# EAGLE library part LTM8055EY-1#PBF (library SamacSys_Parts)
Switching Voltage Regulators 36VIN, 8.5A Buck-Boost Module Reg Source: Datasheet <https://www.analog.com/media/en/technical-documentation/data-sheets/LTM8055-8055-1.pdf>
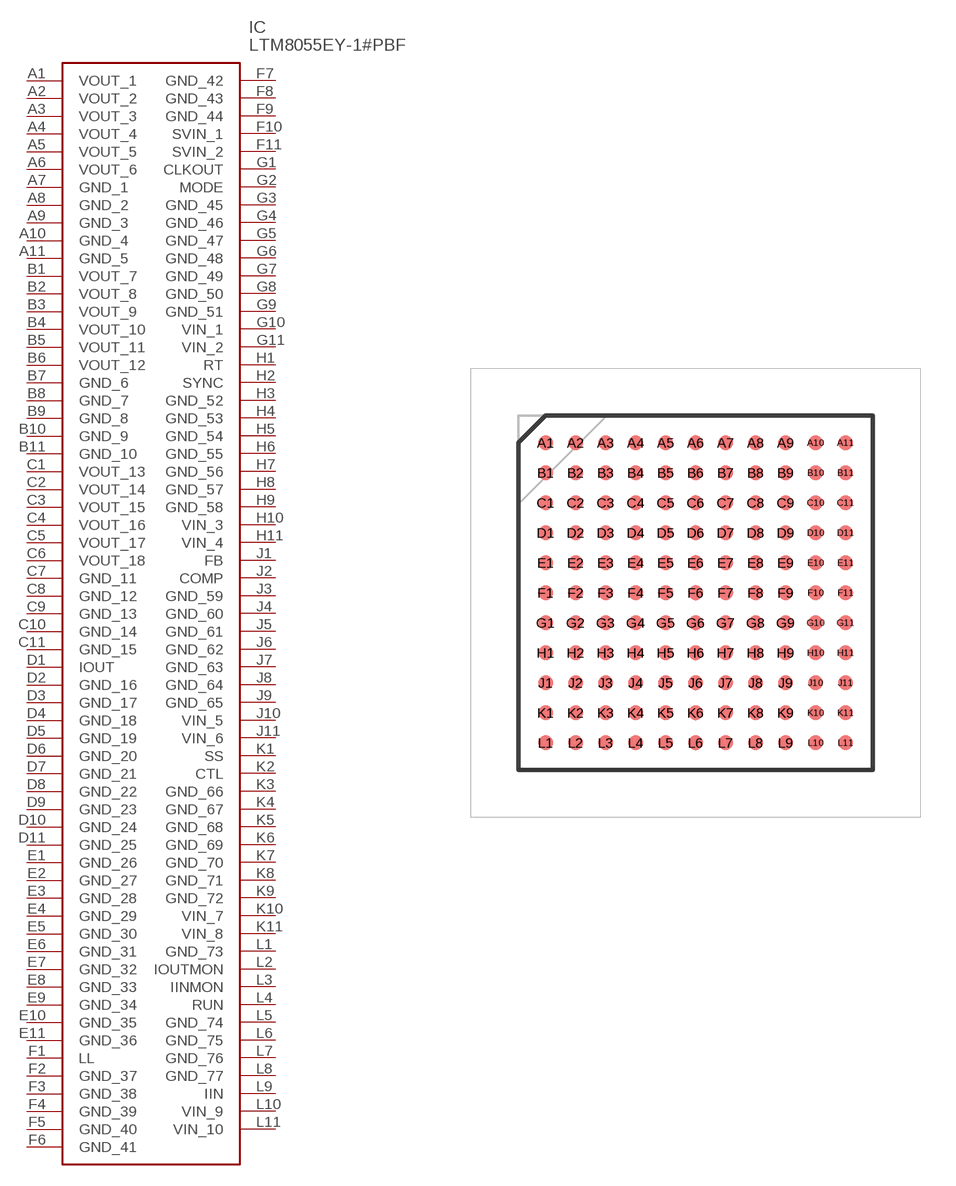
[diagram p0: symbol with the pads of BGA121C127P11X11_1500X1500X512; footprint BGA121C127P11X11_1500X1500X512]

Designator prefix IC

## LTM8055EY-1#PBF (DESCRIPTION: Switching Voltage Regulators 36VIN, 8.5A Buck-Boost Module Reg; HEIGHT: 5.12mm; MANUFACTURER_NAME: Linear Technology; MANUFACTURER_PART_NUMBER: LTM8055EY-1#PBF; MOUSER_PART_NUMBER: 584-LTM8055EY-1#PBF; MOUSER_PRICE-STOCK: https://www.mouser.co.uk/ProductDetail/Analog-Devices-Linear-Technology/LTM8055EY-1PBF?qs=qSfuJ%252Bfl%2Fd6h9OfHwPBS6w%3D%3D)  [BGA121C127P11X11_1500X1500X512]
A1  VOUT_1
A2  VOUT_2
A3  VOUT_3
A4  VOUT_4
A5  VOUT_5
A6  VOUT_6
A7  GND_1
A8  GND_2
A9  GND_3
A10  GND_4
A11  GND_5
B1  VOUT_7
B2  VOUT_8
B3  VOUT_9
B4  VOUT_10
B5  VOUT_11
B6  VOUT_12
B7  GND_6
B8  GND_7
B9  GND_8
B10  GND_9
B11  GND_10
C1  VOUT_13
C2  VOUT_14
C3  VOUT_15
C4  VOUT_16
C5  VOUT_17
C6  VOUT_18
C7  GND_11
C8  GND_12
C9  GND_13
C10  GND_14
C11  GND_15
D1  IOUT
D2  GND_16
D3  GND_17
D4  GND_18
D5  GND_19
D6  GND_20
D7  GND_21
D8  GND_22
D9  GND_23
D10  GND_24
D11  GND_25
E1  GND_26
E2  GND_27
E3  GND_28
E4  GND_29
E5  GND_30
E6  GND_31
E7  GND_32
E8  GND_33
E9  GND_34
E10  GND_35
E11  GND_36
F1  LL
F2  GND_37
F3  GND_38
F4  GND_39
F5  GND_40
F6  GND_41
F7  GND_42
F8  GND_43
F9  GND_44
F10  SVIN_1
F11  SVIN_2
G1  CLKOUT
G2  MODE
G3  GND_45
G4  GND_46
G5  GND_47
G6  GND_48
G7  GND_49
G8  GND_50
G9  GND_51
G10  VIN_1
G11  VIN_2
H1  RT
H2  SYNC
H3  GND_52
H4  GND_53
H5  GND_54
H6  GND_55
H7  GND_56
H8  GND_57
H9  GND_58
H10  VIN_3
H11  VIN_4
J1  FB
J2  COMP
J3  GND_59
J4  GND_60
J5  GND_61
J6  GND_62
J7  GND_63
J8  GND_64
J9  GND_65
J10  VIN_5
J11  VIN_6
K1  SS
K2  CTL
K3  GND_66
K4  GND_67
K5  GND_68
K6  GND_69
K7  GND_70
K8  GND_71
K9  GND_72
K10  VIN_7
K11  VIN_8
L1  GND_73
L2  IOUTMON
L3  IINMON
L4  RUN
L5  GND_74
L6  GND_75
L7  GND_76
L8  GND_77
L9  IIN
L10  VIN_9
L11  VIN_10

## Footprint BGA121C127P11X11_1500X1500X512 (pad centres in mm)
BGA Package 121-Lead (15.00mm 15.00mm 4.92mm)
smd 0.635 x 0.635: A1 -6.35,6.35; A2 -5.08,6.35; A3 -3.81,6.35; A4 -2.54,6.35; A5 -1.27,6.35; A6 0,6.35; A7 1.27,6.35; A8 2.54,6.35; A9 3.81,6.35; A10 5.08,6.35; A11 6.35,6.35; B1 -6.35,5.08; B2 -5.08,5.08; B3 -3.81,5.08; B4 -2.54,5.08; B5 -1.27,5.08; B6 0,5.08; B7 1.27,5.08; B8 2.54,5.08; B9 3.81,5.08; B10 5.08,5.08; B11 6.35,5.08; C1 -6.35,3.81; C2 -5.08,3.81; C3 -3.81,3.81; C4 -2.54,3.81; C5 -1.27,3.81; C6 0,3.81; C7 1.27,3.81; C8 2.54,3.81; C9 3.81,3.81; C10 5.08,3.81; C11 6.35,3.81; D1 -6.35,2.54; D2 -5.08,2.54; D3 -3.81,2.54; D4 -2.54,2.54; D5 -1.27,2.54; D6 0,2.54; D7 1.27,2.54; D8 2.54,2.54; D9 3.81,2.54; D10 5.08,2.54; D11 6.35,2.54; E1 -6.35,1.27; E2 -5.08,1.27; E3 -3.81,1.27; E4 -2.54,1.27; E5 -1.27,1.27; E6 0,1.27; E7 1.27,1.27; E8 2.54,1.27; E9 3.81,1.27; E10 5.08,1.27; E11 6.35,1.27; F1 -6.35,0; F2 -5.08,0; F3 -3.81,0; F4 -2.54,0; F5 -1.27,0; F6 0,0; F7 1.27,0; F8 2.54,0; F9 3.81,0; F10 5.08,0; F11 6.35,0; G1 -6.35,-1.27; G2 -5.08,-1.27; G3 -3.81,-1.27; G4 -2.54,-1.27; G5 -1.27,-1.27; G6 0,-1.27; G7 1.27,-1.27; G8 2.54,-1.27; G9 3.81,-1.27; G10 5.08,-1.27; G11 6.35,-1.27; H1 -6.35,-2.54; H2 -5.08,-2.54; H3 -3.81,-2.54; H4 -2.54,-2.54; H5 -1.27,-2.54; H6 0,-2.54; H7 1.27,-2.54; H8 2.54,-2.54; H9 3.81,-2.54; H10 5.08,-2.54; H11 6.35,-2.54; J1 -6.35,-3.81; J2 -5.08,-3.81; J3 -3.81,-3.81; J4 -2.54,-3.81; J5 -1.27,-3.81; J6 0,-3.81; J7 1.27,-3.81; J8 2.54,-3.81; J9 3.81,-3.81; J10 5.08,-3.81; J11 6.35,-3.81; K1 -6.35,-5.08; K2 -5.08,-5.08; K3 -3.81,-5.08; K4 -2.54,-5.08; K5 -1.27,-5.08; K6 0,-5.08; K7 1.27,-5.08; K8 2.54,-5.08; K9 3.81,-5.08; K10 5.08,-5.08; K11 6.35,-5.08; L1 -6.35,-6.35; L2 -5.08,-6.35; L3 -3.81,-6.35; L4 -2.54,-6.35; L5 -1.27,-6.35; L6 0,-6.35; L7 1.27,-6.35; L8 2.54,-6.35; L9 3.81,-6.35; L10 5.08,-6.35; L11 6.35,-6.35